# EAGLE library part SVD-PIC16C74 (library erics)
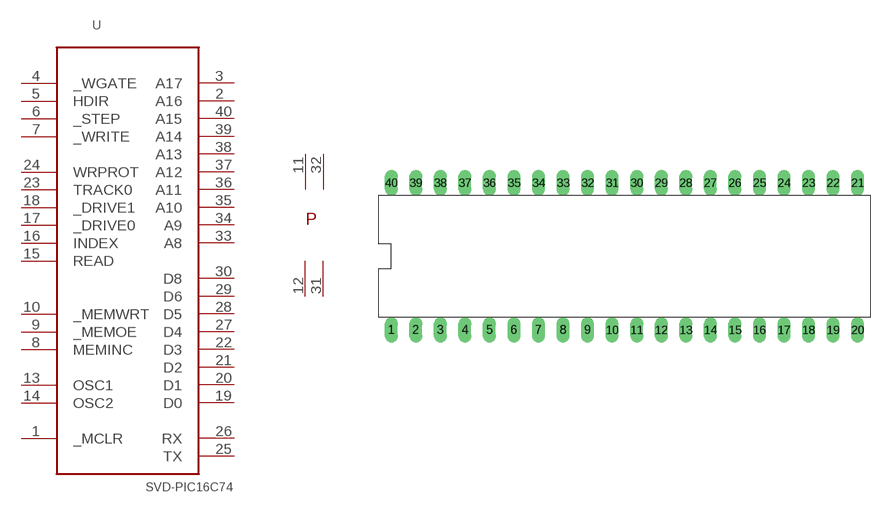
[diagram p1: symbol with the pads of DIL40; footprint DIL40]

Designator prefix -

## SVD-PIC16C74  [DIL40]
1  _MCLR  in
2  A16  out
3  A17  out
4  _WGATE  in
5  HDIR  in
6  _STEP  in
7  _WRITE  in
8  MEMINC  out
9  _MEMOE  out
10  _MEMWRT  out
11  VCC  pwr
12  GND  pwr
13  OSC1  in
14  OSC2  in
15  READ  out
16  INDEX  out
17  _DRIVE0  in
18  _DRIVE1  in
19  D0
20  D1
21  D2
22  D3
23  TRACK0  out
24  WRPROT  out
25  TX  out
26  RX  in
27  D4
28  D5
29  D6
30  D8
31  GND  pwr
32  VCC  pwr
33  A8  out
34  A9  out
35  A10  out
36  A11  out
37  A12  out
38  A13  out
39  A14  out
40  A15  out

## Footprint DIL40 (pad centres in mm)
drill 0.813 long: 1 -17.78,-12.7; 2 -15.24,-12.7; 3 -12.7,-12.7; 4 -10.16,-12.7; 5 -7.62,-12.7; 6 -5.08,-12.7; 7 -2.54,-12.7; 8 0,-12.7; 9 2.54,-12.7; 10 5.08,-12.7; 11 7.62,-12.7; 12 10.16,-12.7; 13 12.7,-12.7; 14 15.24,-12.7; 15 17.78,-12.7; 16 20.32,-12.7; 17 22.86,-12.7; 18 25.4,-12.7; 19 27.94,-12.7; 20 30.48,-12.7; 21 30.48,2.54; 22 27.94,2.54; 23 25.4,2.54; 24 22.86,2.54; 25 20.32,2.54; 26 17.78,2.54; 27 15.24,2.54; 28 12.7,2.54; 29 10.16,2.54; 30 7.62,2.54; 31 5.08,2.54; 32 2.54,2.54; 33 0,2.54; 34 -2.54,2.54; 35 -5.08,2.54; 36 -7.62,2.54; 37 -10.16,2.54; 38 -12.7,2.54; 39 -15.24,2.54; 40 -17.78,2.54